# EAGLE library part LED5050 (library tmxk)
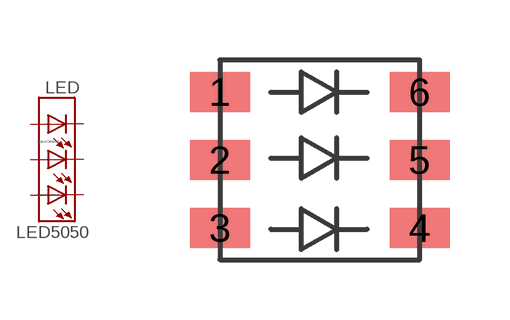
[diagram p6: symbol with the pads of LED5050; footprint LED5050]

Designator prefix LED

## LED5050  [LED5050]
1  A1  pas
2  A2  pas
3  A3  pas
4  K3  pas
5  K2  pas
6  K1  pas

## Footprint LED5050 (pad centres in mm)
smd 1.5 x 1: 1 -2.54,1.66; 2 -2.54,-0.04; 3 -2.54,-1.74; 4 2.46,-1.74; 5 2.46,-0.04; 6 2.46,1.66